# Altium schematic symbol library s8421-45r.SchLib: 1 symbol
Pins are listed as number, name and electrical type; pins without a type are passive.

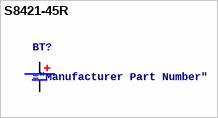
[diagram p0: symbol S8421-45R]

## S8421-45R
designator BT?
EZ-Coin Cell Battery Retainer, Horizontal SMT, for CR2032 Coin Cell Batteries
pins: 1 +, 2 -